# Altium footprint library CAPACITOR_D125.PcbLib: 1 footprints
Each footprint in its own frame and in the unit in brackets; x right, y up, seen from the top. Pads: shape width x height; smd on the part's side, far side on the other; paste and mask are expansions set on the pad; w line width, h text height; cw(c..) or ccw(c..) is an arc to the next point about the centre after c.
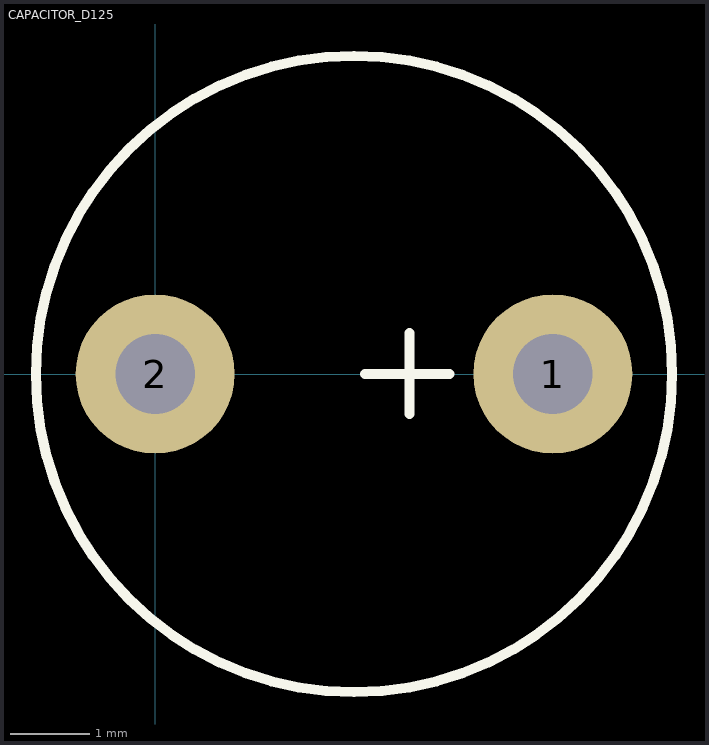
[diagram p0: the footprint, top view; thin cyan lines are the x and y axes]

## CAPACITOR_D125 [mm]
pads (2):
  round 2 hole 1: 1(5,0) 2(0,0)
Top Overlay:
  circle w0.127: c2.5,0 r4
  lines w0.127: 2.642,0 3.7,0 ; 3.2,-0.5 3.2,0.516